# EAGLE library part PAN132X (library Panasonic PAN132X)
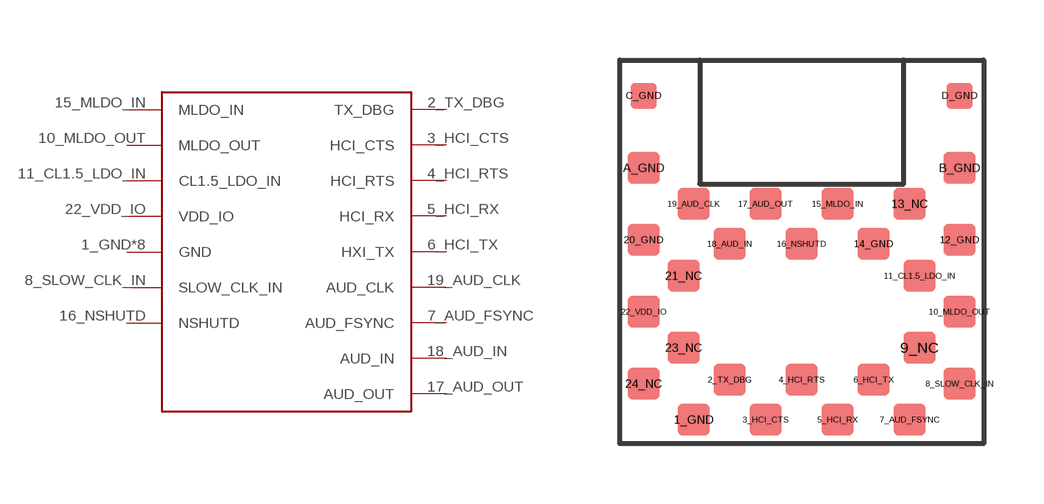
[diagram p0: symbol with the pads of BOARD; footprint BOARD]

Designator prefix -

## PAN132X  [BOARD]
1_GND  GND
2_TX_DBG  TX_DBG
3_HCI_CTS  HCI_CTS
4_HCI_RTS  HCI_RTS
5_HCI_RX  HCI_RX
6_HCI_TX  HXI_TX
7_AUD_FSYNC  AUD_FSYNC
8_SLOW_CLK_IN  SLOW_CLK_IN
10_MLDO_OUT  MLDO_OUT
11_CL1.5_LDO_IN  CL1.5_LDO_IN
12_GND  GND
14_GND  GND
15_MLDO_IN  MLDO_IN
16_NSHUTD  NSHUTD
17_AUD_OUT  AUD_OUT
18_AUD_IN  AUD_IN
19_AUD_CLK  AUD_CLK
20_GND  GND
22_VDD_IO  VDD_IO
A_GND  GND
B_GND  GND
C_GND  GND
D_GND  GND

## Footprint BOARD (pad centres in mm)
smd 0.8 x 0.8: 1_GND -2.7,-4.2; 2_TX_DBG -1.8,-3.2; 3_HCI_CTS -0.9,-4.2; 4_HCI_RTS 0,-3.2; 5_HCI_RX 0.9,-4.2; 6_HCI_TX 1.8,-3.2; 7_AUD_FSYNC 2.7,-4.2; 8_SLOW_CLK_IN 3.95,-3.3; 9_NC 2.95,-2.4; 10_MLDO_OUT 3.95,-1.5; 11_CL1.5_LDO_IN 2.95,-0.6; 12_GND 3.95,0.3; 13_NC 2.7,1.2; 14_GND 1.8,0.2; 15_MLDO_IN 0.9,1.2; 16_NSHUTD 0,0.2; 17_AUD_OUT -0.9,1.2; 18_AUD_IN -1.8,0.2; 19_AUD_CLK -2.7,1.2; 20_GND -3.95,0.3; 21_NC -2.95,-0.6; 22_VDD_IO -3.95,-1.5; 23_NC -2.95,-2.4; 24_NC -3.95,-3.3; A_GND -3.95,2.1; B_GND 3.95,2.1
smd 0.65 x 0.65: C_GND -3.95,3.9; D_GND 3.95,3.9